# EAGLE library part MAX1737 (library BW-Active)
1-4s lithium battery charge controller
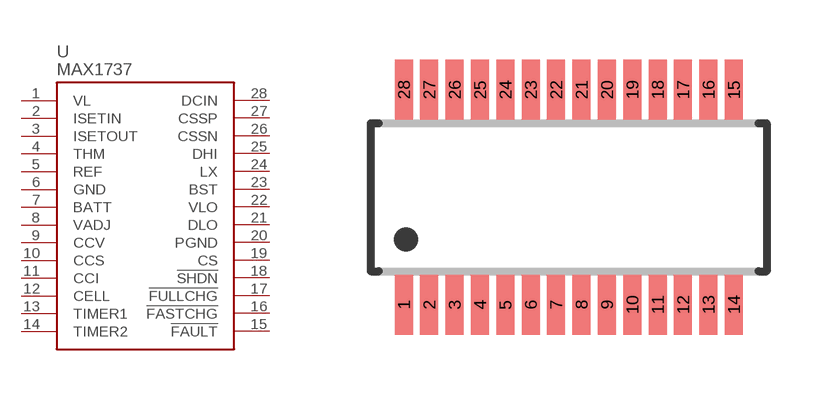
[diagram p21: symbol with the pads of QSOP28; footprint QSOP28]

Designator prefix U

## MAX1737  [QSOP28]
1  VL
2  ISETIN
3  ISETOUT
4  THM
5  REF
6  GND
7  BATT
8  VADJ
9  CCV
10  CCS
11  CCI
12  CELL
13  TIMER1
14  TIMER2
15  !FAULT
16  !FASTCHG
17  !FULLCHG
18  !SHDN
19  CS
20  PGND
21  DLO
22  VLO
23  BST
24  LX
25  DHI
26  CSSN
27  CSSP
28  DCIN

## Footprint QSOP28 (pad centres in mm)
QSOP 28 Source: http://datasheets.maxim-ic.com/en/ds/MAX1737.pdf
smd 0.45 x 1.5: 1 -4.128,-2.69; 2 -3.493,-2.69; 3 -2.857,-2.69; 4 -2.223,-2.69; 5 -1.587,-2.69; 6 -0.953,-2.69; 7 -0.318,-2.69; 8 0.318,-2.69; 9 0.953,-2.69; 10 1.587,-2.69; 11 2.223,-2.69; 12 2.857,-2.69; 13 3.493,-2.69; 14 4.128,-2.69; 15 4.128,2.69; 16 3.493,2.69; 17 2.857,2.69; 18 2.223,2.69; 19 1.587,2.69; 20 0.953,2.69; 21 0.318,2.69; 22 -0.318,2.69; 23 -0.953,2.69; 24 -1.587,2.69; 25 -2.223,2.69; 26 -2.857,2.69; 27 -3.493,2.69; 28 -4.128,2.69